# EAGLE library part ACS711 (library SSI)
Allegro Current Sensor http://www.digikey.com/product-detail/en/ACS711ELCTR-25AB-T/620-1371-1-ND/2470595 and related packages
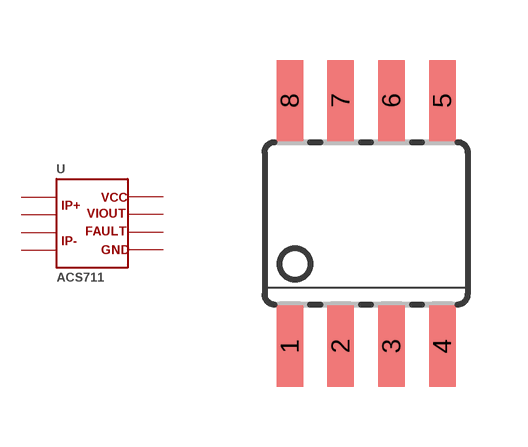
[diagram p19: symbol with the pads of SOIC08; footprint SOIC08]

Designator prefix -

## ACS711SOIC08  [SOIC08]
1  IP+1
2  IP+2
3  IP-1
4  IP-2
5  GND
6  FAULT
7  VIOUT
8  VCC

## Footprint SOIC08 (pad centres in mm)
Small Outline Package
smd 0.66 x 2.032: 1 -1.905,-3.073; 2 -0.635,-3.073; 3 0.635,-3.073; 4 1.905,-3.073; 5 1.905,3.073; 6 0.635,3.073; 7 -0.635,3.073; 8 -1.905,3.073